# EAGLE library part 61203421721 (library Wire-to-Board (rev18a))
WR-BHD 2.54mm Male Angled Box Header, 34 Pins=>Code : Con_WTB_BHD_2.54_Male_THT_WS_61203421721 <http://katalog.we-online.de/media/thumbs2/eican/thb_Con_WTB_BHD_2.54_Male_THT_WS_6120xx21721_pf2.jpg> Details see: http://katalog.we-online.de/en/em/612_0xx_217_21 Created 2014-06-05, Karrer Zheng 2014 (C) Würth Elektronik
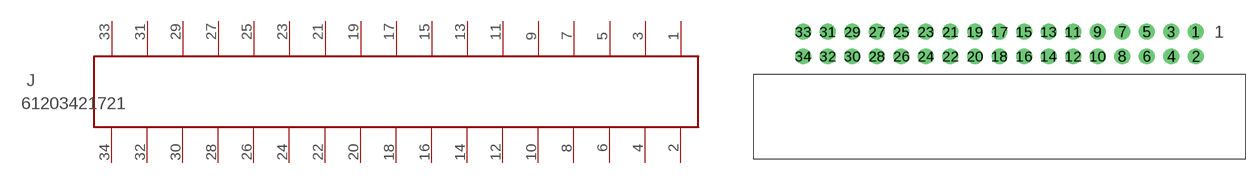
[diagram p175: symbol with the pads of 61203421721; footprint 61203421721]

Designator prefix J

## 61203421721  [61203421721]
1  34  pas
2  33  pas
3  32  pas
4  31  pas
5  30  pas
6  29  pas
7  28  pas
8  27  pas
9  26  pas
10  25  pas
11  24  pas
12  23  pas
13  22  pas
14  21  pas
15  20  pas
16  19  pas
17  18  pas
18  17  pas
19  16  pas
20  15  pas
21  14  pas
22  13  pas
23  12  pas
24  11  pas
25  10  pas
26  9  pas
27  8  pas
28  7  pas
29  6  pas
30  5  pas
31  4  pas
32  3  pas
33  2  pas
34  1  pas

## Footprint 61203421721 (pad centres in mm)
WR-BHD 2.54mm Male Angled Box Header, 34 Pins
drill 1.1: 1 20.32,1.27; 2 20.32,-1.27; 3 17.78,1.27; 4 17.78,-1.27; 5 15.24,1.27; 6 15.24,-1.27; 7 12.7,1.27; 8 12.7,-1.27; 9 10.16,1.27; 10 10.16,-1.27; 11 7.62,1.27; 12 7.62,-1.27; 13 5.08,1.27; 14 5.08,-1.27; 15 2.54,1.27; 16 2.54,-1.27; 17 0,1.27; 18 0,-1.27; 19 -2.54,1.27; 20 -2.54,-1.27; 21 -5.08,1.27; 22 -5.08,-1.27; 23 -7.62,1.27; 24 -7.62,-1.27; 25 -10.16,1.27; 26 -10.16,-1.27; 27 -12.7,1.27; 28 -12.7,-1.27; 29 -15.24,1.27; 30 -15.24,-1.27; 31 -17.78,1.27; 32 -17.78,-1.27; 33 -20.32,1.27; 34 -20.32,-1.27